# Altium schematic symbol library smartled.SchLib: 2 symbols
Pins are listed as number, name and electrical type; pins without a type are passive.

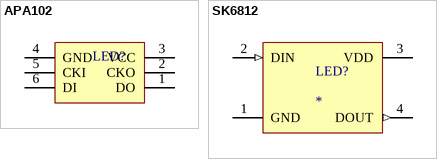
[diagram p0: symbols APA102 to SK6812]

## APA102
designator LED?  (value not drawn)
footprint APA102-2020
pins: 1 DO, 2 CKO, 3 VCC, 4 GND, 5 CKI, 6 DI

## SK6812
designator LED?
pins: 1 GND (power), 2 DIN (in), 3 VDD (power), 4 DOUT (out)